# EAGLE library part MCP3008 (library Components)
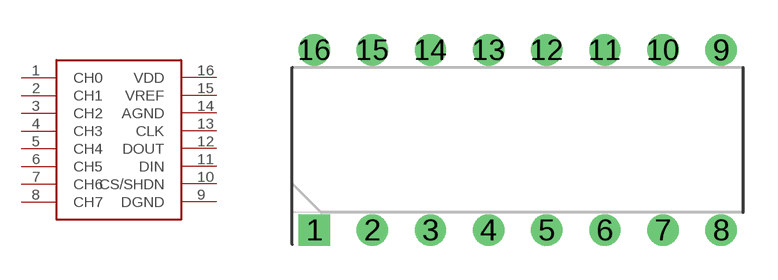
[diagram p11: symbol with the pads of DIP310W18P100L775H210Q16P; footprint DIP310W18P100L775H210Q16P]

Designator prefix -

## MCP3008  [DIP310W18P100L775H210Q16P]
1  CH0
2  CH1
3  CH2
4  CH3
5  CH4
6  CH5
7  CH6
8  CH7
9  DGND
10  CS/SHDN
11  DIN
12  DOUT
13  CLK
14  AGND
15  VREF
16  VDD

## Footprint DIP310W18P100L775H210Q16P (pad centres in mm)
DIP, 0.310 in lead span, 0.100 in pitch;16 pin,0.775 in L X 0.250 in W X 0.210 in H body PCB Libraries Packages
drill 0.864 pad 1.372 square: 1 -8.89,-3.937
drill 0.864 pad 1.372: 2 -6.35,-3.937; 3 -3.81,-3.937; 4 -1.27,-3.937; 5 1.27,-3.937; 6 3.81,-3.937; 7 6.35,-3.937; 8 8.89,-3.937; 9 8.89,3.937; 10 6.35,3.937; 11 3.81,3.937; 12 1.27,3.937; 13 -1.27,3.937; 14 -3.81,3.937; 15 -6.35,3.937; 16 -8.89,3.937